# Altium footprint library 2019-04-01_16-00-31.PcbLib: 1 footprints
Each footprint in its own frame and in the unit in brackets; x right, y up, seen from the top. Pads: shape width x height; smd on the part's side, far side on the other; paste and mask are expansions set on the pad; w line width, h text height; cw(c..) or ccw(c..) is an arc to the next point about the centre after c.
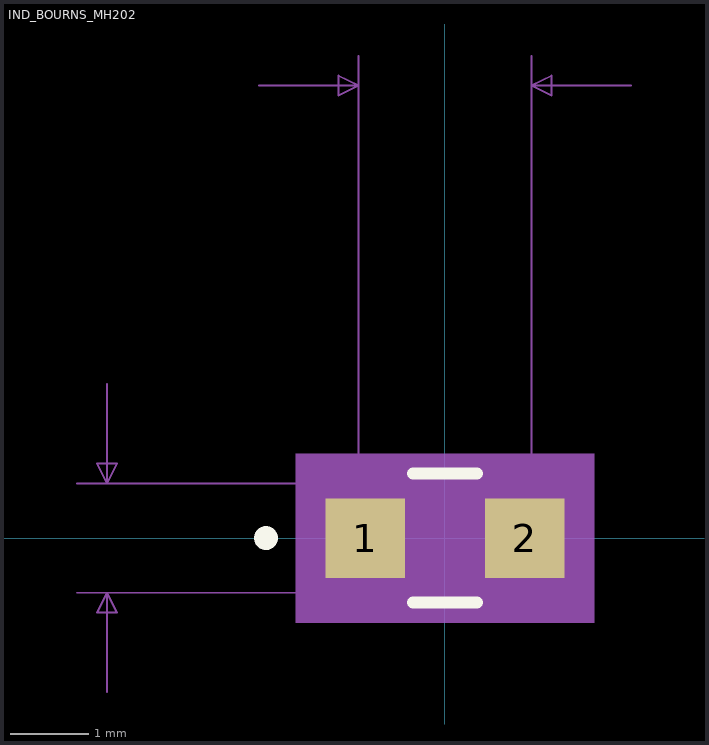
[diagram p0: the footprint, top view; thin cyan lines are the x and y axes]

## IND_BOURNS_MH202 [mil]
pads (2):
  rect 40x40 smd paste+0 mask+0: 1(-40,0) 2(40,0)
Top Overlay:
  circle w6: c-90,0 r3
  lines w6: -16.08,-32.5 16.08,-32.5 ; -16.08,32.5 16.08,32.5
Mechanical 5:
  region: 75,-42.5 -75,-42.5 -75,42.5 75,42.5
Mechanical 7:
  lines w1: -185,-27.5 53.5,-27.5 ; -185,27.5 53.5,27.5 ; -170,-77.5 -170,-27.5 ; -170,77.5 -170,27.5 ; -93.5,227.5 -43.5,227.5 ; -43.5,30 -43.5,242.5 ; 43.5,30 43.5,242.5 ; 93.5,227.5 43.5,227.5 ; -170,-27.5 -175,-37.5 -165,-37.5 -170,-27.5 ; -170,27.5 -175,37.5 -165,37.5 -170,27.5 ; -43.5,227.5 -53.5,232.5 -53.5,222.5 -43.5,227.5 ; 43.5,227.5 53.5,232.5 53.5,222.5 43.5,227.5
  text "Default Pad Style: r102_102" at -337.5,-237.5 h50
  text "Alt 1 Pad Style: b152_229h76" at -350,-287.5 h50
  text "Alt 2 Pad Style: c229h76" at -300,-337.5 h50
  text "0.087in/2.21mm" at -87.5,247.5 h25
  text "0.055in/1.397mm" at -377.5,-12.5 h25
Mechanical 13:
  circle w0: c-40.5,0 r3
  lines w1: -43.5,-27.5 43.5,-27.5 43.5,27.5 -43.5,27.5 -43.5,-27.5
Mechanical 15:
  region: -53.5,-30 -70,-30 -70,30 -53.5,30 -53.5,37.5 53.5,37.5 53.5,30 70,30 70,-30 53.5,-30 53.5,-37.5 -53.5,-37.5
  lines w6: -70,-30 -70,30 -53.5,30 -53.5,37.5 53.5,37.5 53.5,30 70,30 70,-30 53.5,-30 53.5,-37.5 -53.5,-37.5 -53.5,-30 -70,-30
3D body: height 10, standoff 0, extent 0,0 10,10